# Altium integrated library LM311DG4.IntLib: 1 symbol
Pins are listed as number, name and electrical type; pins without a type are passive.

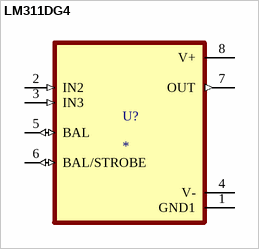
[diagram p0: symbol LM311DG4]

## LM311DG4
designator U?
High Speed, 30V, Differential Comparator With Strobes 8-SOIC 0 to 70; MP: LM311DG4; MF: Texas Instruments; Check_prices: https://www.snapeda.com/parts/LM311DG4/Texas+Instruments/view-part/?ref=eda; Availability: In Stock; SnapEDA_Link: https://www.snapeda.com/parts/LM311DG4/Texas+Instruments/view-part/?ref=snap; Value: *; Price: None; Package: SOIC-8 Texas Instruments; Purchase-URL: https://pricing.snapeda.com/search/part/LM311DG4/?ref=eda
footprint SOIC127P599X175-8N
pins: 1 GND1 (power), 2 IN2 (in), 3 IN3 (in), 4 V- (power), 5 BAL (io), 6 BAL/STROBE (io), 7 OUT (out), 8 V+ (power)